# Altium schematic symbol library FAN2500.Schlib: 1 symbol
Pins are listed as number, name and electrical type; pins without a type are passive.

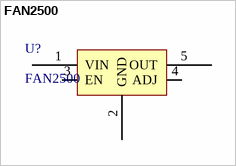
[diagram p0: symbol FAN2500]

## FAN2500
designator U?
pins: 1 VIN, 2 GND, 3 EN, 4 ADJ, 5 OUT